# Altium schematic symbol library Parts_Schematic.SchLib: 18 symbols
Pins are listed as number, name and electrical type; pins without a type are passive.

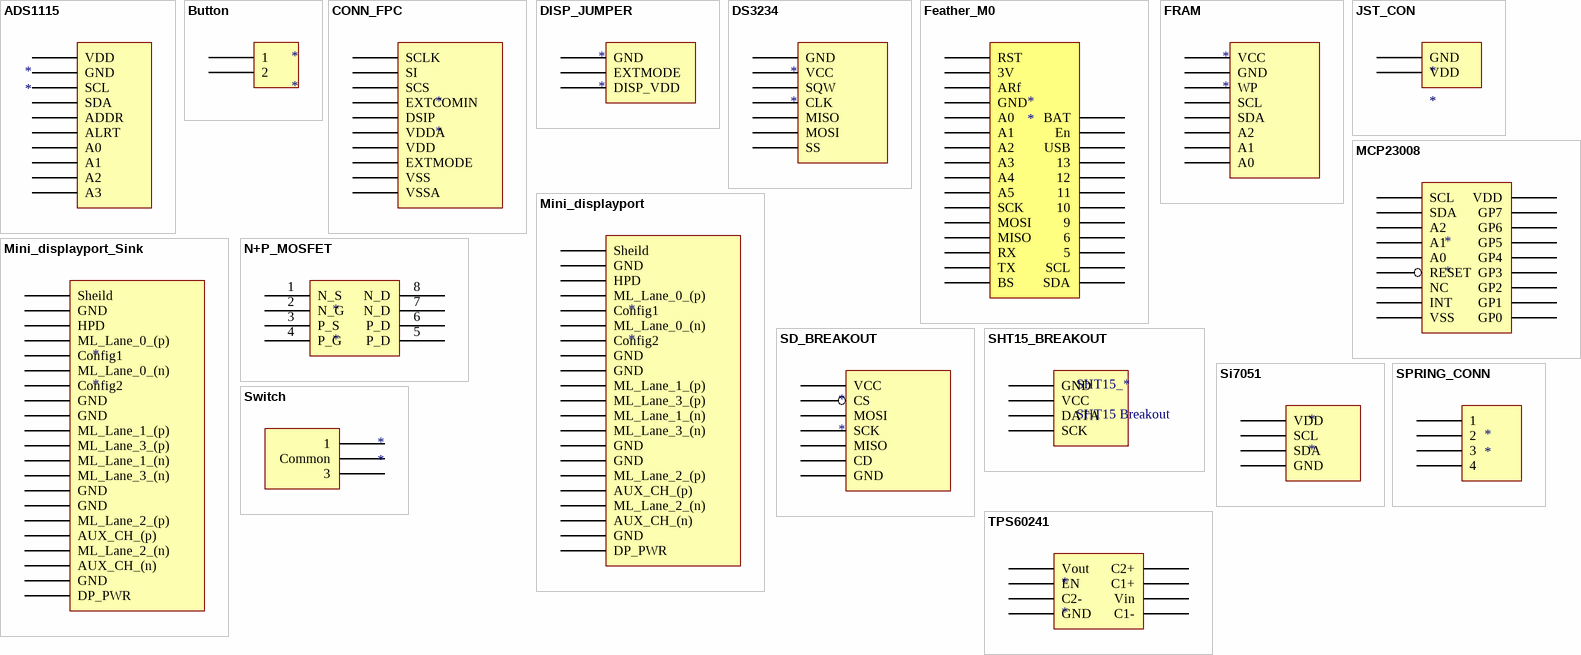
[diagram p0: symbols ADS1115 to TPS60241]

## ADS1115
designator *
footprint ADS1115
pins: 1 VDD, 2 GND, 3 SCL, 4 SDA, 5 ADDR, 6 ALRT, 7 A0, 8 A1, 9 A2, 10 A3

## Button
designator *
footprint Button_footprint
pins: 1, 2

## CONN_FPC
designator *
footprint CONN_FPC
pins: 1 SCLK, 2 SI, 3 SCS, 4 EXTCOMIN, 5 DSIP, 6 VDDA, 7 VDD, 8 EXTMODE, 9 VSS, 10 VSSA

## DISP_JUMPER
designator *
footprint DISP_Jumper
pins: 1 GND, 2 EXTMODE, 3 DISP_VDD

## DS3234
designator *
footprint DS3234_FOOTPRINT
pins: 1 GND, 2 VCC, 3 SQW, 4 CLK, 5 MISO, 6 MOSI, 7 SS

## Feather_M0
designator *
footprint Feather_M0
pins: 1 RST, 2 3V, 3 ARf, 4 GND, 5 A0, 6 A1, 7 A2, 8 A3, 9 A4, 10 A5, 11 SCK, 12 MOSI, 13 MISO, 14 RX, 15 TX, 16 BS, 17 SDA, 18 SCL, 19 5, 20 6, 21 9, 22 10, 23 11, 24 12, 25 13, 26 USB, 27 En, 28 BAT

## FRAM
designator *
footprint FRAM
pins: 1 VCC, 2 GND, 3 WP, 4 SCL, 5 SDA, 6 A2, 7 A1, 8 A0

## JST_CON
designator *
footprint JST_CONN
pins: 1 GND, 2 VDD

## MCP23008
designator *
footprint MCP23008
pins: 1 SCL, 2 SDA, 3 A2, 4 A1, 5 A0, 6 RESET, 7 NC, 8 INT, 9 VSS, 10 GP0, 11 GP1, 12 GP2, 13 GP3, 14 GP4, 15 GP5, 16 GP6, 17 GP7, 18 VDD

## Mini_displayport
designator *
footprint CONN_Displayport
pins: 0 Sheild, 1 GND, 2 HPD, 3 ML_Lane_0_(p), 4 Config1, 5 ML_Lane_0_(n), 6 Config2, 7 GND, 8 GND, 9 ML_Lane_1_(p), 10 ML_Lane_3_(p), 11 ML_Lane_1_(n), 12 ML_Lane_3_(n), 13 GND, 14 GND, 15 ML_Lane_2_(p), 16 AUX_CH_(p), 17 ML_Lane_2_(n), 18 AUX_CH_(n), 19 GND, 20 DP_PWR

## Mini_displayport_Sink
designator *
footprint CONN_Displayport
pins: 0 Sheild, 1 GND, 2 HPD, 3 ML_Lane_3_(n), 4 Config1, 5 ML_Lane_3_(p), 6 Config2, 7 GND, 8 GND, 9 ML_Lane_2_(n), 10 ML_Lane_0_(n), 11 ML_Lane_2_(p), 12 ML_Lane_0_(p), 13 GND, 14 GND, 15 ML_Lane_1_(n), 16 AUX_CH_(p), 17 ML_Lane_1_(p), 18 AUX_CH_(n), 19 GND, 20 DP_PWR

## N+P_MOSFET
designator *
footprint SOP8
pins: 1 N_S, 2 N_G, 3 P_S, 4 P_G, 5 P_D, 6 P_D, 7 N_D, 8 N_D

## SD_BREAKOUT
designator *
footprint SD_BREAKOUT_FOOTPRINT
pins: 1 VCC, 2 CS, 3 MOSI, 4 SCK, 5 MISO, 6 CD, 7 GND

## SHT15_BREAKOUT
designator SHT15_*, comment SHT15 Breakout
footprint SHT15_BREAKOUT_FOOTPRINT
pins: 1 GND, 2 VCC, 3 DATA, 4 SCK

## Si7051
designator *
footprint Si7051_Footprint
pins: 1 VDD, 2 SCL, 3 SDA, 4 GND

## SPRING_CONN
designator *
footprint QUICK_CONN
pins: 1, 2, 3, 4

## Switch
designator *
footprint Switch_footprint
pins: 1, 2 Common, 3

## TPS60241
designator *
footprint TPS60241
pins: 1 Vout, 2 EN, 3 C2-, 4 GND, 5 C1-, 6 Vin, 7 C1+, 8 C2+